# Altium schematic symbol library MCU_Microchip_AVR_Dx.SchLib: 50 symbols
Pins are listed as number, name and electrical type; pins without a type are passive.

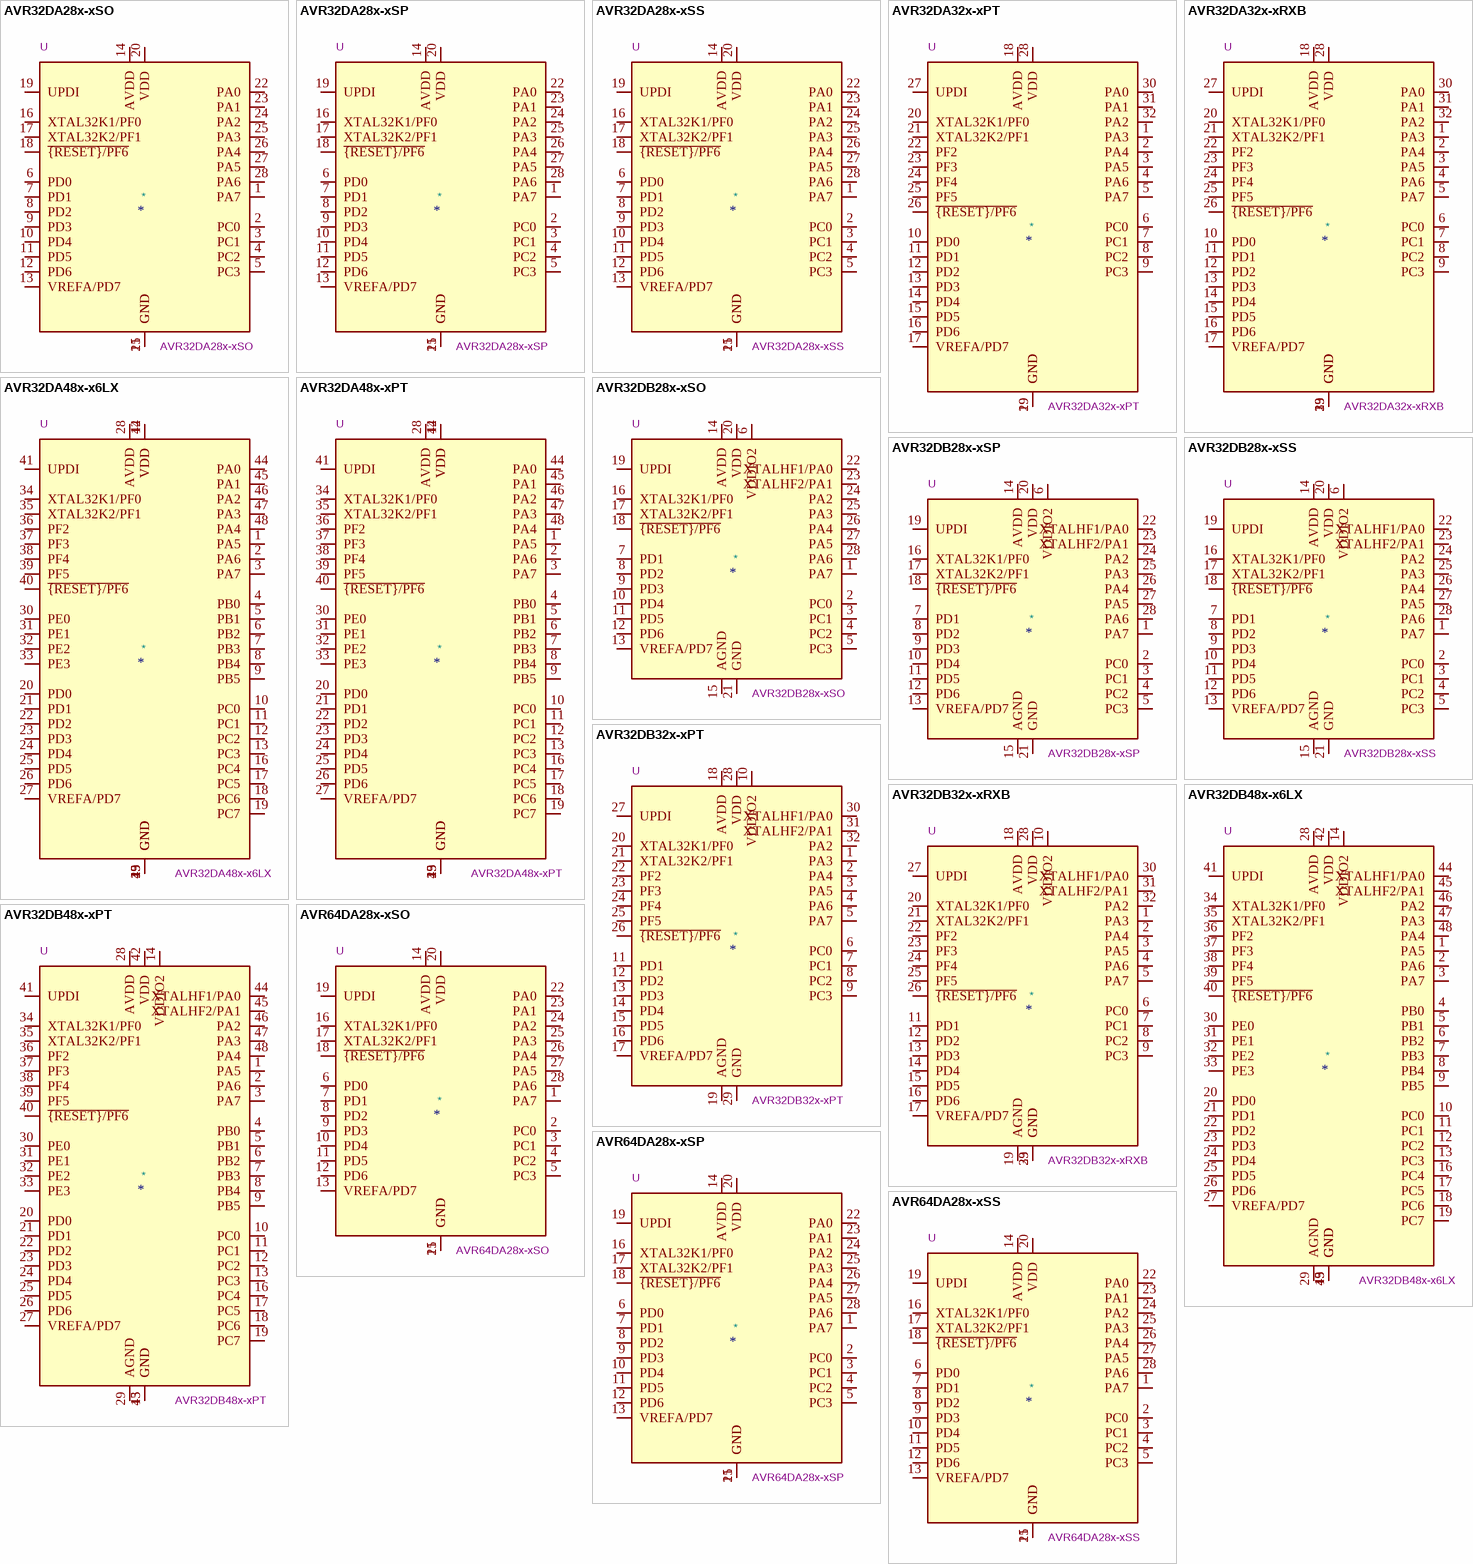
[diagram p0: symbols AVR32DA28x-xSO to AVR64DA28x-xSS]

## AVR32DA28x-xSO
designator *  value AVR32DA28x-xSO  Reference: U
24MHz, 32kB Flash, 4kB SRAM, EEPROM with Touch Sensing, SOIC-28; ki_keywords: AVR 8bit Microcontroller AVR-DA; ki_fp_filters: SOIC*7.5x17.9mm*P1.27mm*; Footprint: Package_SO:SOIC-28W_7.5x17.9mm_P1.27mm; Datasheet: https://ww1.microchip.com/downloads/en/DeviceDoc/AVR32DA28-32-48-Data-Sheet-40002228B.pdf; Description_: 24MHz, 32kB Flash, 4kB SRAM, EEPROM with Touch Sensing, SOIC-28
pins: 1 PA7, 2 PC0, 3 PC1, 4 PC2, 5 PC3, 6 PD0, 7 PD1, 8 PD2, 9 PD3, 10 PD4, 11 PD5, 12 PD6, 13 VREFA/PD7, 14 AVDD, 15 GND, 16 XTAL32K1/PF0, 17 XTAL32K2/PF1, 18 ~{{RESET}/PF6}, 19 UPDI, 20 VDD, 21 GND, 22 PA0, 23 PA1, 24 PA2, 25 PA3, 26 PA4, 27 PA5, 28 PA6

## AVR32DA28x-xSP
designator *  value AVR32DA28x-xSP  Reference: U
24MHz, 32kB Flash, 4kB SRAM, EEPROM with Touch Sensing, SPDIP-28; ki_keywords: AVR 8bit Microcontroller AVR-DA; ki_fp_filters: DIP*W7.62mm*; Footprint: Package_DIP:DIP-28_W7.62mm; Datasheet: https://ww1.microchip.com/downloads/en/DeviceDoc/AVR32DA28-32-48-Data-Sheet-40002228B.pdf; Description_: 24MHz, 32kB Flash, 4kB SRAM, EEPROM with Touch Sensing, SPDIP-28
pins: 1 PA7, 2 PC0, 3 PC1, 4 PC2, 5 PC3, 6 PD0, 7 PD1, 8 PD2, 9 PD3, 10 PD4, 11 PD5, 12 PD6, 13 VREFA/PD7, 14 AVDD, 15 GND, 16 XTAL32K1/PF0, 17 XTAL32K2/PF1, 18 ~{{RESET}/PF6}, 19 UPDI, 20 VDD, 21 GND, 22 PA0, 23 PA1, 24 PA2, 25 PA3, 26 PA4, 27 PA5, 28 PA6

## AVR32DA28x-xSS
designator *  value AVR32DA28x-xSS  Reference: U
24MHz, 32kB Flash, 4kB SRAM, EEPROM with Touch Sensing, SSOP-28; ki_keywords: AVR 8bit Microcontroller AVR-DA; ki_fp_filters: SSOP*5.3x10.2mm*P0.65mm*; Footprint: Package_SO:SSOP-28_5.3x10.2mm_P0.65mm; Datasheet: https://ww1.microchip.com/downloads/en/DeviceDoc/AVR32DA28-32-48-Data-Sheet-40002228B.pdf; Description_: 24MHz, 32kB Flash, 4kB SRAM, EEPROM with Touch Sensing, SSOP-28
pins: 1 PA7, 2 PC0, 3 PC1, 4 PC2, 5 PC3, 6 PD0, 7 PD1, 8 PD2, 9 PD3, 10 PD4, 11 PD5, 12 PD6, 13 VREFA/PD7, 14 AVDD, 15 GND, 16 XTAL32K1/PF0, 17 XTAL32K2/PF1, 18 ~{{RESET}/PF6}, 19 UPDI, 20 VDD, 21 GND, 22 PA0, 23 PA1, 24 PA2, 25 PA3, 26 PA4, 27 PA5, 28 PA6

## AVR32DA32x-xPT
designator *  value AVR32DA32x-xPT  Reference: U
24MHz, 32kB Flash, 4kB SRAM, EEPROM with Touch Sensing, TQFP-32; ki_keywords: AVR 8bit Microcontroller AVR-DA; ki_fp_filters: TQFP*7x7mm*P0.8mm*; Footprint: Package_QFP:TQFP-32_7x7mm_P0.8mm; Datasheet: https://ww1.microchip.com/downloads/en/DeviceDoc/AVR32DA28-32-48-Data-Sheet-40002228B.pdf; Description_: 24MHz, 32kB Flash, 4kB SRAM, EEPROM with Touch Sensing, TQFP-32
pins: 1 PA3, 2 PA4, 3 PA5, 4 PA6, 5 PA7, 6 PC0, 7 PC1, 8 PC2, 9 PC3, 10 PD0, 11 PD1, 12 PD2, 13 PD3, 14 PD4, 15 PD5, 16 PD6, 17 VREFA/PD7, 18 AVDD, 19 GND, 20 XTAL32K1/PF0, 21 XTAL32K2/PF1, 22 PF2, 23 PF3, 24 PF4, 25 PF5, 26 ~{{RESET}/PF6}, 27 UPDI, 28 VDD, 29 GND, 30 PA0, 31 PA1, 32 PA2

## AVR32DA32x-xRXB
designator *  value AVR32DA32x-xRXB  Reference: U
24MHz, 32kB Flash, 4kB SRAM, EEPROM with Touch Sensing, VQFN-32; ki_keywords: AVR 8bit Microcontroller AVR-DA; ki_fp_filters: QFN*1EP*5x5mm*P0.5mm*EP3.1x3.1mm*; Footprint: Package_DFN_QFN:QFN-32-1EP_5x5mm_P0.5mm_EP3.1x3.1mm; Datasheet: https://ww1.microchip.com/downloads/en/DeviceDoc/AVR32DA28-32-48-Data-Sheet-40002228B.pdf; Description_: 24MHz, 32kB Flash, 4kB SRAM, EEPROM with Touch Sensing, VQFN-32
pins: 1 PA3, 2 PA4, 3 PA5, 4 PA6, 5 PA7, 6 PC0, 7 PC1, 8 PC2, 9 PC3, 10 PD0, 11 PD1, 12 PD2, 13 PD3, 14 PD4, 15 PD5, 16 PD6, 17 VREFA/PD7, 18 AVDD, 19 GND, 20 XTAL32K1/PF0, 21 XTAL32K2/PF1, 22 PF2, 23 PF3, 24 PF4, 25 PF5, 26 ~{{RESET}/PF6}, 27 UPDI, 28 VDD, 29 GND, 30 PA0, 31 PA1, 32 PA2, 33 GND

## AVR32DA48x-x6LX
designator *  value AVR32DA48x-x6LX  Reference: U
24MHz, 32kB Flash, 4kB SRAM, EEPROM with Touch Sensing, VQFN-48; ki_keywords: AVR 8bit Microcontroller AVR-DA; ki_fp_filters: QFN*1EP*6x6mm*P0.4mm*EP4.2x4.2mm*; Footprint: Package_DFN_QFN:QFN-48-1EP_6x6mm_P0.4mm_EP4.2x4.2mm; Datasheet: https://ww1.microchip.com/downloads/en/DeviceDoc/AVR32DA28-32-48-Data-Sheet-40002228B.pdf; Description_: 24MHz, 32kB Flash, 4kB SRAM, EEPROM with Touch Sensing, VQFN-48
pins: 1 PA5, 2 PA6, 3 PA7, 4 PB0, 5 PB1, 6 PB2, 7 PB3, 8 PB4, 9 PB5, 10 PC0, 11 PC1, 12 PC2, 13 PC3, 14 VDD, 15 GND, 16 PC4, 17 PC5, 18 PC6, 19 PC7, 20 PD0, 21 PD1, 22 PD2, 23 PD3, 24 PD4, 25 PD5, 26 PD6, 27 VREFA/PD7, 28 AVDD, 29 GND, 30 PE0, 31 PE1, 32 PE2, 33 PE3, 34 XTAL32K1/PF0, 35 XTAL32K2/PF1, 36 PF2, 37 PF3, 38 PF4, 39 PF5, 40 ~{{RESET}/PF6}, 41 UPDI, 42 VDD, 43 GND, 44 PA0, 45 PA1, 46 PA2, 47 PA3, 48 PA4, 49 GND

## AVR32DA48x-xPT
designator *  value AVR32DA48x-xPT  Reference: U
24MHz, 32kB Flash, 4kB SRAM, EEPROM with Touch Sensing, TQFP-48; ki_keywords: AVR 8bit Microcontroller AVR-DA; ki_fp_filters: TQFP*7x7mm*P0.5mm*; Footprint: Package_QFP:TQFP-48_7x7mm_P0.5mm; Datasheet: https://ww1.microchip.com/downloads/en/DeviceDoc/AVR32DA28-32-48-Data-Sheet-40002228B.pdf; Description_: 24MHz, 32kB Flash, 4kB SRAM, EEPROM with Touch Sensing, TQFP-48
pins: 1 PA5, 2 PA6, 3 PA7, 4 PB0, 5 PB1, 6 PB2, 7 PB3, 8 PB4, 9 PB5, 10 PC0, 11 PC1, 12 PC2, 13 PC3, 14 VDD, 15 GND, 16 PC4, 17 PC5, 18 PC6, 19 PC7, 20 PD0, 21 PD1, 22 PD2, 23 PD3, 24 PD4, 25 PD5, 26 PD6, 27 VREFA/PD7, 28 AVDD, 29 GND, 30 PE0, 31 PE1, 32 PE2, 33 PE3, 34 XTAL32K1/PF0, 35 XTAL32K2/PF1, 36 PF2, 37 PF3, 38 PF4, 39 PF5, 40 ~{{RESET}/PF6}, 41 UPDI, 42 VDD, 43 GND, 44 PA0, 45 PA1, 46 PA2, 47 PA3, 48 PA4

## AVR32DB28x-xSO
designator *  value AVR32DB28x-xSO  Reference: U
24MHz, 32kB Flash, 4kB SRAM, EEPROM with Op Amps and Multi-Voltage I/O, SOIC-28; ki_keywords: AVR 8bit Microcontroller AVR-DB; ki_fp_filters: SOIC*7.5x17.9mm*P1.27mm*; Footprint: Package_SO:SOIC-28W_7.5x17.9mm_P1.27mm; Datasheet: https://ww1.microchip.com/downloads/en/DeviceDoc/AVR32DB28-32-48-DataSheet-DS40002301A.pdf; Description_: 24MHz, 32kB Flash, 4kB SRAM, EEPROM with Op Amps and Multi-Voltage I/O, SOIC-28
pins: 1 PA7, 2 PC0, 3 PC1, 4 PC2, 5 PC3, 6 VDDIO2, 7 PD1, 8 PD2, 9 PD3, 10 PD4, 11 PD5, 12 PD6, 13 VREFA/PD7, 14 AVDD, 15 AGND, 16 XTAL32K1/PF0, 17 XTAL32K2/PF1, 18 ~{{RESET}/PF6}, 19 UPDI, 20 VDD, 21 GND, 22 XTALHF1/PA0, 23 XTALHF2/PA1, 24 PA2, 25 PA3, 26 PA4, 27 PA5, 28 PA6

## AVR32DB28x-xSP
designator *  value AVR32DB28x-xSP  Reference: U
24MHz, 32kB Flash, 4kB SRAM, EEPROM with Op Amps and Multi-Voltage I/O, SPDIP-28; ki_keywords: AVR 8bit Microcontroller AVR-DB; ki_fp_filters: DIP*W7.62mm*; Footprint: Package_DIP:DIP-28_W7.62mm; Datasheet: https://ww1.microchip.com/downloads/en/DeviceDoc/AVR32DB28-32-48-DataSheet-DS40002301A.pdf; Description_: 24MHz, 32kB Flash, 4kB SRAM, EEPROM with Op Amps and Multi-Voltage I/O, SPDIP-28
pins: 1 PA7, 2 PC0, 3 PC1, 4 PC2, 5 PC3, 6 VDDIO2, 7 PD1, 8 PD2, 9 PD3, 10 PD4, 11 PD5, 12 PD6, 13 VREFA/PD7, 14 AVDD, 15 AGND, 16 XTAL32K1/PF0, 17 XTAL32K2/PF1, 18 ~{{RESET}/PF6}, 19 UPDI, 20 VDD, 21 GND, 22 XTALHF1/PA0, 23 XTALHF2/PA1, 24 PA2, 25 PA3, 26 PA4, 27 PA5, 28 PA6

## AVR32DB28x-xSS
designator *  value AVR32DB28x-xSS  Reference: U
24MHz, 32kB Flash, 4kB SRAM, EEPROM with Op Amps and Multi-Voltage I/O, SSOP-28; ki_keywords: AVR 8bit Microcontroller AVR-DB; ki_fp_filters: SSOP*5.3x10.2mm*P0.65mm*; Footprint: Package_SO:SSOP-28_5.3x10.2mm_P0.65mm; Datasheet: https://ww1.microchip.com/downloads/en/DeviceDoc/AVR32DB28-32-48-DataSheet-DS40002301A.pdf; Description_: 24MHz, 32kB Flash, 4kB SRAM, EEPROM with Op Amps and Multi-Voltage I/O, SSOP-28
pins: 1 PA7, 2 PC0, 3 PC1, 4 PC2, 5 PC3, 6 VDDIO2, 7 PD1, 8 PD2, 9 PD3, 10 PD4, 11 PD5, 12 PD6, 13 VREFA/PD7, 14 AVDD, 15 AGND, 16 XTAL32K1/PF0, 17 XTAL32K2/PF1, 18 ~{{RESET}/PF6}, 19 UPDI, 20 VDD, 21 GND, 22 XTALHF1/PA0, 23 XTALHF2/PA1, 24 PA2, 25 PA3, 26 PA4, 27 PA5, 28 PA6

## AVR32DB32x-xPT
designator *  value AVR32DB32x-xPT  Reference: U
24MHz, 32kB Flash, 4kB SRAM, EEPROM with Op Amps and Multi-Voltage I/O, TQFP-32; ki_keywords: AVR 8bit Microcontroller AVR-DB; ki_fp_filters: TQFP*7x7mm*P0.8mm*; Footprint: Package_QFP:TQFP-32_7x7mm_P0.8mm; Datasheet: https://ww1.microchip.com/downloads/en/DeviceDoc/AVR32DB28-32-48-DataSheet-DS40002301A.pdf; Description_: 24MHz, 32kB Flash, 4kB SRAM, EEPROM with Op Amps and Multi-Voltage I/O, TQFP-32
pins: 1 PA3, 2 PA4, 3 PA5, 4 PA6, 5 PA7, 6 PC0, 7 PC1, 8 PC2, 9 PC3, 10 VDDIO2, 11 PD1, 12 PD2, 13 PD3, 14 PD4, 15 PD5, 16 PD6, 17 VREFA/PD7, 18 AVDD, 19 AGND, 20 XTAL32K1/PF0, 21 XTAL32K2/PF1, 22 PF2, 23 PF3, 24 PF4, 25 PF5, 26 ~{{RESET}/PF6}, 27 UPDI, 28 VDD, 29 GND, 30 XTALHF1/PA0, 31 XTALHF2/PA1, 32 PA2

## AVR32DB32x-xRXB
designator *  value AVR32DB32x-xRXB  Reference: U
24MHz, 32kB Flash, 4kB SRAM, EEPROM with Op Amps and Multi-Voltage I/O, VQFN-32; ki_keywords: AVR 8bit Microcontroller AVR-DB; ki_fp_filters: QFN*1EP*5x5mm*P0.5mm*EP3.1x3.1mm*; Footprint: Package_DFN_QFN:QFN-32-1EP_5x5mm_P0.5mm_EP3.1x3.1mm; Datasheet: https://ww1.microchip.com/downloads/en/DeviceDoc/AVR32DB28-32-48-DataSheet-DS40002301A.pdf; Description_: 24MHz, 32kB Flash, 4kB SRAM, EEPROM with Op Amps and Multi-Voltage I/O, VQFN-32
pins: 1 PA3, 2 PA4, 3 PA5, 4 PA6, 5 PA7, 6 PC0, 7 PC1, 8 PC2, 9 PC3, 10 VDDIO2, 11 PD1, 12 PD2, 13 PD3, 14 PD4, 15 PD5, 16 PD6, 17 VREFA/PD7, 18 AVDD, 19 AGND, 20 XTAL32K1/PF0, 21 XTAL32K2/PF1, 22 PF2, 23 PF3, 24 PF4, 25 PF5, 26 ~{{RESET}/PF6}, 27 UPDI, 28 VDD, 29 GND, 30 XTALHF1/PA0, 31 XTALHF2/PA1, 32 PA2, 33 GND

## AVR32DB48x-x6LX
designator *  value AVR32DB48x-x6LX  Reference: U
24MHz, 32kB Flash, 4kB SRAM, EEPROM with Op Amps and Multi-Voltage I/O, VQFN-48; ki_keywords: AVR 8bit Microcontroller AVR-DB; ki_fp_filters: QFN*1EP*6x6mm*P0.4mm*EP4.2x4.2mm*; Footprint: Package_DFN_QFN:QFN-48-1EP_6x6mm_P0.4mm_EP4.2x4.2mm; Datasheet: https://ww1.microchip.com/downloads/en/DeviceDoc/AVR32DB28-32-48-DataSheet-DS40002301A.pdf; Description_: 24MHz, 32kB Flash, 4kB SRAM, EEPROM with Op Amps and Multi-Voltage I/O, VQFN-48
pins: 1 PA5, 2 PA6, 3 PA7, 4 PB0, 5 PB1, 6 PB2, 7 PB3, 8 PB4, 9 PB5, 10 PC0, 11 PC1, 12 PC2, 13 PC3, 14 VDDIO2, 15 GND, 16 PC4, 17 PC5, 18 PC6, 19 PC7, 20 PD0, 21 PD1, 22 PD2, 23 PD3, 24 PD4, 25 PD5, 26 PD6, 27 VREFA/PD7, 28 AVDD, 29 AGND, 30 PE0, 31 PE1, 32 PE2, 33 PE3, 34 XTAL32K1/PF0, 35 XTAL32K2/PF1, 36 PF2, 37 PF3, 38 PF4, 39 PF5, 40 ~{{RESET}/PF6}, 41 UPDI, 42 VDD, 43 GND, 44 XTALHF1/PA0, 45 XTALHF2/PA1, 46 PA2, 47 PA3, 48 PA4, 49 GND

## AVR32DB48x-xPT
designator *  value AVR32DB48x-xPT  Reference: U
24MHz, 32kB Flash, 4kB SRAM, EEPROM with Op Amps and Multi-Voltage I/O, TQFP-48; ki_keywords: AVR 8bit Microcontroller AVR-DB; ki_fp_filters: TQFP*7x7mm*P0.5mm*; Footprint: Package_QFP:TQFP-48_7x7mm_P0.5mm; Datasheet: https://ww1.microchip.com/downloads/en/DeviceDoc/AVR32DB28-32-48-DataSheet-DS40002301A.pdf; Description_: 24MHz, 32kB Flash, 4kB SRAM, EEPROM with Op Amps and Multi-Voltage I/O, TQFP-48
pins: 1 PA5, 2 PA6, 3 PA7, 4 PB0, 5 PB1, 6 PB2, 7 PB3, 8 PB4, 9 PB5, 10 PC0, 11 PC1, 12 PC2, 13 PC3, 14 VDDIO2, 15 GND, 16 PC4, 17 PC5, 18 PC6, 19 PC7, 20 PD0, 21 PD1, 22 PD2, 23 PD3, 24 PD4, 25 PD5, 26 PD6, 27 VREFA/PD7, 28 AVDD, 29 AGND, 30 PE0, 31 PE1, 32 PE2, 33 PE3, 34 XTAL32K1/PF0, 35 XTAL32K2/PF1, 36 PF2, 37 PF3, 38 PF4, 39 PF5, 40 ~{{RESET}/PF6}, 41 UPDI, 42 VDD, 43 GND, 44 XTALHF1/PA0, 45 XTALHF2/PA1, 46 PA2, 47 PA3, 48 PA4

## AVR64DA28x-xSO
designator *  value AVR64DA28x-xSO  Reference: U
24MHz, 64kB Flash, 8kB SRAM, EEPROM with Touch Sensing, SOIC-28; ki_keywords: AVR 8bit Microcontroller AVR-DA; ki_fp_filters: SOIC*7.5x17.9mm*P1.27mm*; Footprint: Package_SO:SOIC-28W_7.5x17.9mm_P1.27mm; Datasheet: https://ww1.microchip.com/downloads/en/DeviceDoc/AVR64DA28-32-48-64-Data-Sheet-40002233B.pdf; Description_: 24MHz, 64kB Flash, 8kB SRAM, EEPROM with Touch Sensing, SOIC-28
pins: 1 PA7, 2 PC0, 3 PC1, 4 PC2, 5 PC3, 6 PD0, 7 PD1, 8 PD2, 9 PD3, 10 PD4, 11 PD5, 12 PD6, 13 VREFA/PD7, 14 AVDD, 15 GND, 16 XTAL32K1/PF0, 17 XTAL32K2/PF1, 18 ~{{RESET}/PF6}, 19 UPDI, 20 VDD, 21 GND, 22 PA0, 23 PA1, 24 PA2, 25 PA3, 26 PA4, 27 PA5, 28 PA6

## AVR64DA28x-xSP
designator *  value AVR64DA28x-xSP  Reference: U
24MHz, 64kB Flash, 8kB SRAM, EEPROM with Touch Sensing, SPDIP-28; ki_keywords: AVR 8bit Microcontroller AVR-DA; ki_fp_filters: DIP*W7.62mm*; Footprint: Package_DIP:DIP-28_W7.62mm; Datasheet: https://ww1.microchip.com/downloads/en/DeviceDoc/AVR64DA28-32-48-64-Data-Sheet-40002233B.pdf; Description_: 24MHz, 64kB Flash, 8kB SRAM, EEPROM with Touch Sensing, SPDIP-28
pins: 1 PA7, 2 PC0, 3 PC1, 4 PC2, 5 PC3, 6 PD0, 7 PD1, 8 PD2, 9 PD3, 10 PD4, 11 PD5, 12 PD6, 13 VREFA/PD7, 14 AVDD, 15 GND, 16 XTAL32K1/PF0, 17 XTAL32K2/PF1, 18 ~{{RESET}/PF6}, 19 UPDI, 20 VDD, 21 GND, 22 PA0, 23 PA1, 24 PA2, 25 PA3, 26 PA4, 27 PA5, 28 PA6

## AVR64DA28x-xSS
designator *  value AVR64DA28x-xSS  Reference: U
24MHz, 64kB Flash, 8kB SRAM, EEPROM with Touch Sensing, SSOP-28; ki_keywords: AVR 8bit Microcontroller AVR-DA; ki_fp_filters: SSOP*5.3x10.2mm*P0.65mm*; Footprint: Package_SO:SSOP-28_5.3x10.2mm_P0.65mm; Datasheet: https://ww1.microchip.com/downloads/en/DeviceDoc/AVR64DA28-32-48-64-Data-Sheet-40002233B.pdf; Description_: 24MHz, 64kB Flash, 8kB SRAM, EEPROM with Touch Sensing, SSOP-28
pins: 1 PA7, 2 PC0, 3 PC1, 4 PC2, 5 PC3, 6 PD0, 7 PD1, 8 PD2, 9 PD3, 10 PD4, 11 PD5, 12 PD6, 13 VREFA/PD7, 14 AVDD, 15 GND, 16 XTAL32K1/PF0, 17 XTAL32K2/PF1, 18 ~{{RESET}/PF6}, 19 UPDI, 20 VDD, 21 GND, 22 PA0, 23 PA1, 24 PA2, 25 PA3, 26 PA4, 27 PA5, 28 PA6

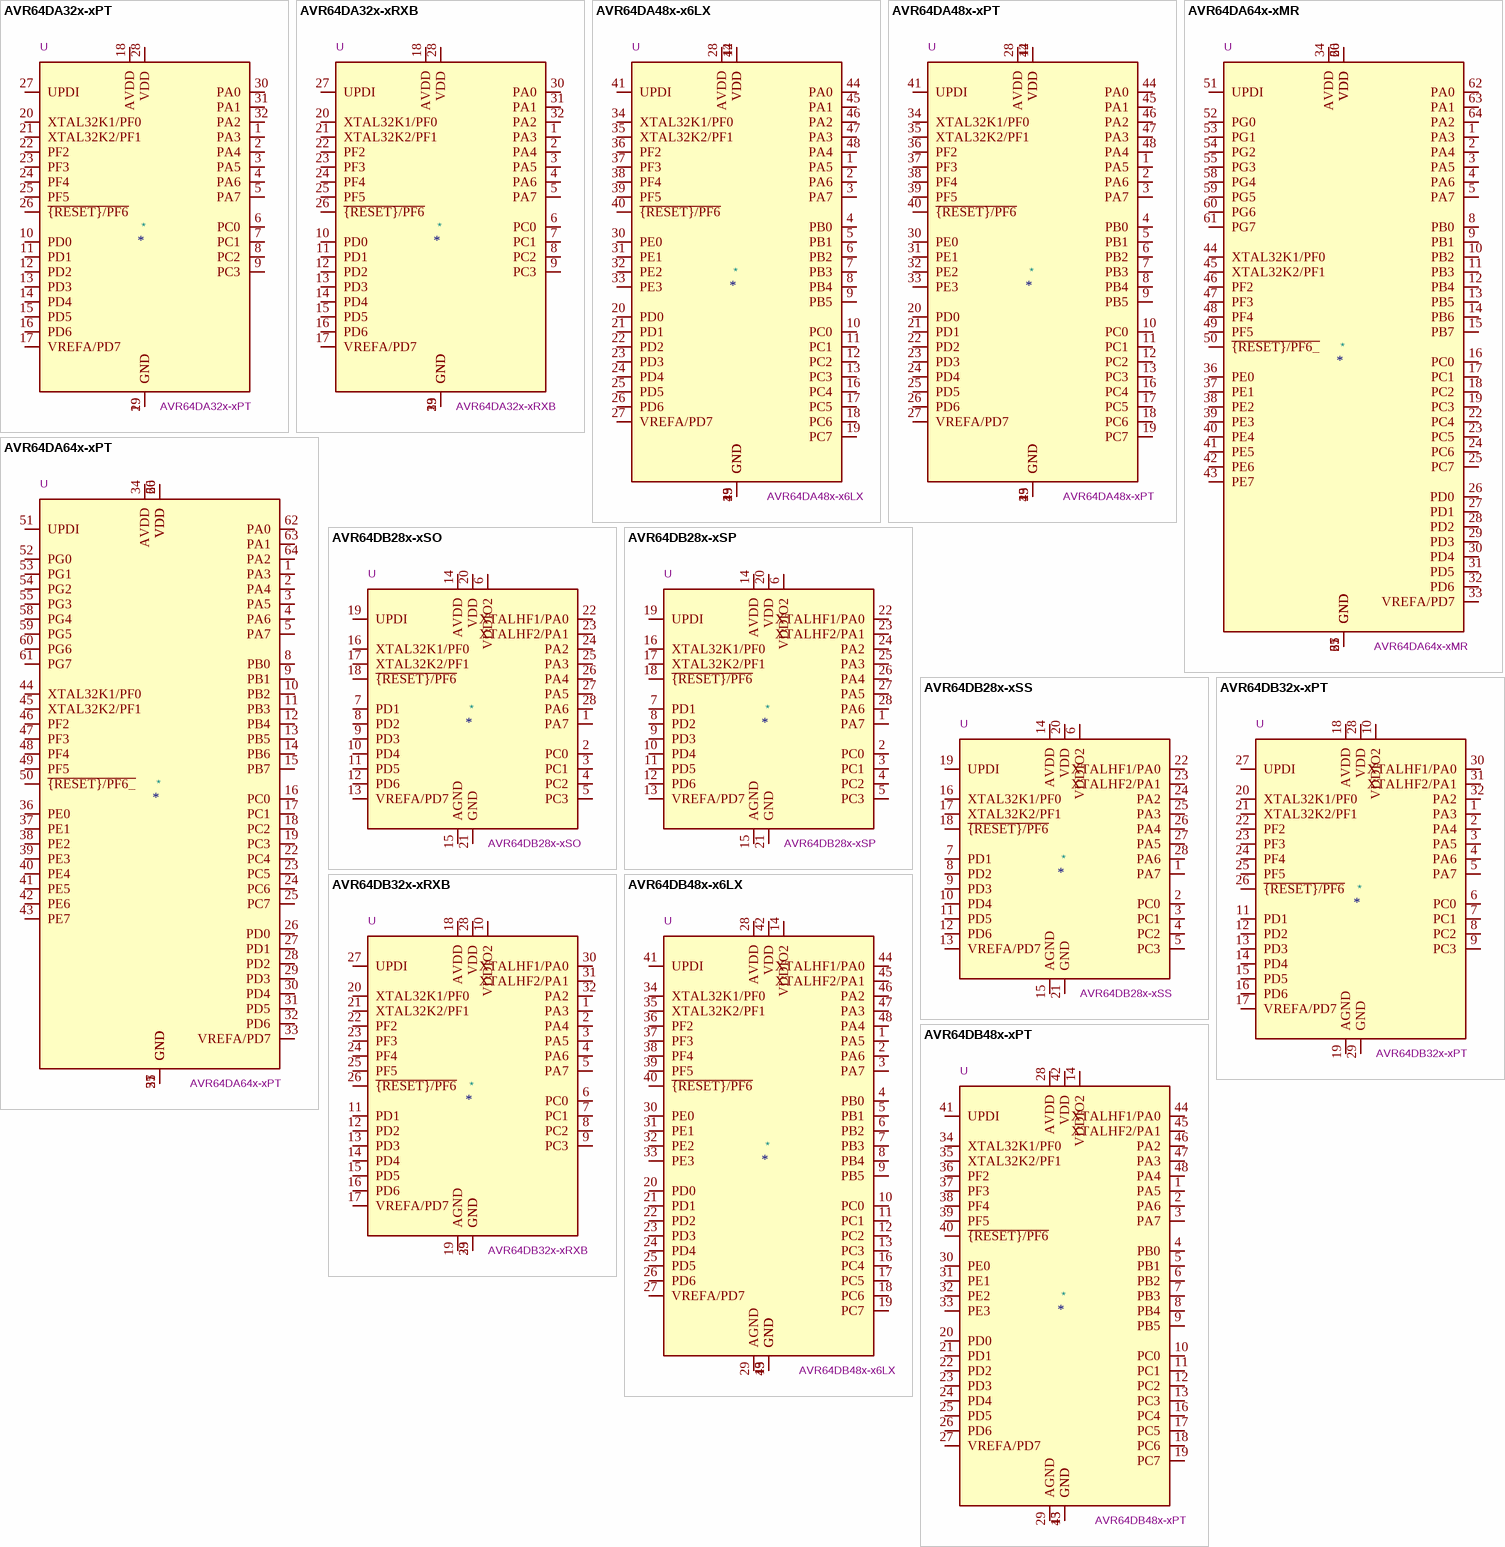
[diagram p1: symbols AVR64DA32x-xPT to AVR64DB48x-xPT]

## AVR64DA32x-xPT
designator *  value AVR64DA32x-xPT  Reference: U
24MHz, 64kB Flash, 8kB SRAM, EEPROM with Touch Sensing, TQFP-32; ki_keywords: AVR 8bit Microcontroller AVR-DA; ki_fp_filters: TQFP*7x7mm*P0.8mm*; Footprint: Package_QFP:TQFP-32_7x7mm_P0.8mm; Datasheet: https://ww1.microchip.com/downloads/en/DeviceDoc/AVR64DA28-32-48-64-Data-Sheet-40002233B.pdf; Description_: 24MHz, 64kB Flash, 8kB SRAM, EEPROM with Touch Sensing, TQFP-32
pins: 1 PA3, 2 PA4, 3 PA5, 4 PA6, 5 PA7, 6 PC0, 7 PC1, 8 PC2, 9 PC3, 10 PD0, 11 PD1, 12 PD2, 13 PD3, 14 PD4, 15 PD5, 16 PD6, 17 VREFA/PD7, 18 AVDD, 19 GND, 20 XTAL32K1/PF0, 21 XTAL32K2/PF1, 22 PF2, 23 PF3, 24 PF4, 25 PF5, 26 ~{{RESET}/PF6}, 27 UPDI, 28 VDD, 29 GND, 30 PA0, 31 PA1, 32 PA2

## AVR64DA32x-xRXB
designator *  value AVR64DA32x-xRXB  Reference: U
24MHz, 64kB Flash, 8kB SRAM, EEPROM with Touch Sensing, VQFN-32; ki_keywords: AVR 8bit Microcontroller AVR-DA; ki_fp_filters: QFN*1EP*5x5mm*P0.5mm*EP3.1x3.1mm*; Footprint: Package_DFN_QFN:QFN-32-1EP_5x5mm_P0.5mm_EP3.1x3.1mm; Datasheet: https://ww1.microchip.com/downloads/en/DeviceDoc/AVR64DA28-32-48-64-Data-Sheet-40002233B.pdf; Description_: 24MHz, 64kB Flash, 8kB SRAM, EEPROM with Touch Sensing, VQFN-32
pins: 1 PA3, 2 PA4, 3 PA5, 4 PA6, 5 PA7, 6 PC0, 7 PC1, 8 PC2, 9 PC3, 10 PD0, 11 PD1, 12 PD2, 13 PD3, 14 PD4, 15 PD5, 16 PD6, 17 VREFA/PD7, 18 AVDD, 19 GND, 20 XTAL32K1/PF0, 21 XTAL32K2/PF1, 22 PF2, 23 PF3, 24 PF4, 25 PF5, 26 ~{{RESET}/PF6}, 27 UPDI, 28 VDD, 29 GND, 30 PA0, 31 PA1, 32 PA2, 33 GND

## AVR64DA48x-x6LX
designator *  value AVR64DA48x-x6LX  Reference: U
24MHz, 64kB Flash, 8kB SRAM, EEPROM with Touch Sensing, VQFN-48; ki_keywords: AVR 8bit Microcontroller AVR-DA; ki_fp_filters: QFN*1EP*6x6mm*P0.4mm*EP4.2x4.2mm*; Footprint: Package_DFN_QFN:QFN-48-1EP_6x6mm_P0.4mm_EP4.2x4.2mm; Datasheet: https://ww1.microchip.com/downloads/en/DeviceDoc/AVR64DA28-32-48-64-Data-Sheet-40002233B.pdf; Description_: 24MHz, 64kB Flash, 8kB SRAM, EEPROM with Touch Sensing, VQFN-48
pins: 1 PA5, 2 PA6, 3 PA7, 4 PB0, 5 PB1, 6 PB2, 7 PB3, 8 PB4, 9 PB5, 10 PC0, 11 PC1, 12 PC2, 13 PC3, 14 VDD, 15 GND, 16 PC4, 17 PC5, 18 PC6, 19 PC7, 20 PD0, 21 PD1, 22 PD2, 23 PD3, 24 PD4, 25 PD5, 26 PD6, 27 VREFA/PD7, 28 AVDD, 29 GND, 30 PE0, 31 PE1, 32 PE2, 33 PE3, 34 XTAL32K1/PF0, 35 XTAL32K2/PF1, 36 PF2, 37 PF3, 38 PF4, 39 PF5, 40 ~{{RESET}/PF6}, 41 UPDI, 42 VDD, 43 GND, 44 PA0, 45 PA1, 46 PA2, 47 PA3, 48 PA4, 49 GND

## AVR64DA48x-xPT
designator *  value AVR64DA48x-xPT  Reference: U
24MHz, 64kB Flash, 8kB SRAM, EEPROM with Touch Sensing, TQFP-48; ki_keywords: AVR 8bit Microcontroller AVR-DA; ki_fp_filters: TQFP*7x7mm*P0.5mm*; Footprint: Package_QFP:TQFP-48_7x7mm_P0.5mm; Datasheet: https://ww1.microchip.com/downloads/en/DeviceDoc/AVR64DA28-32-48-64-Data-Sheet-40002233B.pdf; Description_: 24MHz, 64kB Flash, 8kB SRAM, EEPROM with Touch Sensing, TQFP-48
pins: 1 PA5, 2 PA6, 3 PA7, 4 PB0, 5 PB1, 6 PB2, 7 PB3, 8 PB4, 9 PB5, 10 PC0, 11 PC1, 12 PC2, 13 PC3, 14 VDD, 15 GND, 16 PC4, 17 PC5, 18 PC6, 19 PC7, 20 PD0, 21 PD1, 22 PD2, 23 PD3, 24 PD4, 25 PD5, 26 PD6, 27 VREFA/PD7, 28 AVDD, 29 GND, 30 PE0, 31 PE1, 32 PE2, 33 PE3, 34 XTAL32K1/PF0, 35 XTAL32K2/PF1, 36 PF2, 37 PF3, 38 PF4, 39 PF5, 40 ~{{RESET}/PF6}, 41 UPDI, 42 VDD, 43 GND, 44 PA0, 45 PA1, 46 PA2, 47 PA3, 48 PA4

## AVR64DA64x-xMR
designator *  value AVR64DA64x-xMR  Reference: U
24MHz, 64kB Flash, 8kB SRAM, EEPROM with Touch Sensing, VQFN-64; ki_keywords: AVR 8bit Microcontroller AVR-DA; ki_fp_filters: VQFN*1EP*9x9mm*P0.5mm*EP7.15x7.15mm*; Footprint: Package_DFN_QFN:VQFN-64-1EP_9x9mm_P0.5mm_EP7.15x7.15mm; Datasheet: https://ww1.microchip.com/downloads/en/DeviceDoc/AVR64DA28-32-48-64-Data-Sheet-40002233B.pdf; Description_: 24MHz, 64kB Flash, 8kB SRAM, EEPROM with Touch Sensing, VQFN-64
pins: 1 PA3, 2 PA4, 3 PA5, 4 PA6, 5 PA7, 6 VDD, 7 GND, 8 PB0, 9 PB1, 10 PB2, 11 PB3, 12 PB4, 13 PB5, 14 PB6, 15 PB7, 16 PC0, 17 PC1, 18 PC2, 19 PC3, 20 VDD, 21 GND, 22 PC4, 23 PC5, 24 PC6, 25 PC7, 26 PD0, 27 PD1, 28 PD2, 29 PD3, 30 PD4, 31 PD5, 32 PD6, 33 VREFA/PD7, 34 AVDD, 35 GND, 36 PE0, 37 PE1, 38 PE2, 39 PE3, 40 PE4, 41 PE5, 42 PE6, 43 PE7, 44 XTAL32K1/PF0, 45 XTAL32K2/PF1, 46 PF2, 47 PF3, 48 PF4, 49 PF5, 50 ~{{RESET}/PF6_}, 51 UPDI, 52 PG0, 53 PG1, 54 PG2, 55 PG3, 56 VDD, 57 GND, 58 PG4, 59 PG5, 60 PG6, 61 PG7, 62 PA0, 63 PA1, 64 PA2, 65 GND

## AVR64DA64x-xPT
designator *  value AVR64DA64x-xPT  Reference: U
24MHz, 64kB Flash, 8kB SRAM, EEPROM with Touch Sensing, TQFP-64; ki_keywords: AVR 8bit Microcontroller AVR-DA; ki_fp_filters: TQFP*10x10mm*P0.5mm*; Footprint: Package_QFP:TQFP-64_10x10mm_P0.5mm; Datasheet: https://ww1.microchip.com/downloads/en/DeviceDoc/AVR64DA28-32-48-64-Data-Sheet-40002233B.pdf; Description_: 24MHz, 64kB Flash, 8kB SRAM, EEPROM with Touch Sensing, TQFP-64
pins: 1 PA3, 2 PA4, 3 PA5, 4 PA6, 5 PA7, 6 VDD, 7 GND, 8 PB0, 9 PB1, 10 PB2, 11 PB3, 12 PB4, 13 PB5, 14 PB6, 15 PB7, 16 PC0, 17 PC1, 18 PC2, 19 PC3, 20 VDD, 21 GND, 22 PC4, 23 PC5, 24 PC6, 25 PC7, 26 PD0, 27 PD1, 28 PD2, 29 PD3, 30 PD4, 31 PD5, 32 PD6, 33 VREFA/PD7, 34 AVDD, 35 GND, 36 PE0, 37 PE1, 38 PE2, 39 PE3, 40 PE4, 41 PE5, 42 PE6, 43 PE7, 44 XTAL32K1/PF0, 45 XTAL32K2/PF1, 46 PF2, 47 PF3, 48 PF4, 49 PF5, 50 ~{{RESET}/PF6_}, 51 UPDI, 52 PG0, 53 PG1, 54 PG2, 55 PG3, 56 VDD, 57 GND, 58 PG4, 59 PG5, 60 PG6, 61 PG7, 62 PA0, 63 PA1, 64 PA2

## AVR64DB28x-xSO
designator *  value AVR64DB28x-xSO  Reference: U
24MHz, 64kB Flash, 8kB SRAM, EEPROM with Op Amps and Multi-Voltage I/O, SOIC-28; ki_keywords: AVR 8bit Microcontroller AVR-DB; ki_fp_filters: SOIC*7.5x17.9mm*P1.27mm*; Footprint: Package_SO:SOIC-28W_7.5x17.9mm_P1.27mm; Datasheet: https://ww1.microchip.com/downloads/en/DeviceDoc/AVR64DB28-32-48-64-DataSheet-DS40002300A.pdf; Description_: 24MHz, 64kB Flash, 8kB SRAM, EEPROM with Op Amps and Multi-Voltage I/O, SOIC-28
pins: 1 PA7, 2 PC0, 3 PC1, 4 PC2, 5 PC3, 6 VDDIO2, 7 PD1, 8 PD2, 9 PD3, 10 PD4, 11 PD5, 12 PD6, 13 VREFA/PD7, 14 AVDD, 15 AGND, 16 XTAL32K1/PF0, 17 XTAL32K2/PF1, 18 ~{{RESET}/PF6}, 19 UPDI, 20 VDD, 21 GND, 22 XTALHF1/PA0, 23 XTALHF2/PA1, 24 PA2, 25 PA3, 26 PA4, 27 PA5, 28 PA6

## AVR64DB28x-xSP
designator *  value AVR64DB28x-xSP  Reference: U
24MHz, 64kB Flash, 8kB SRAM, EEPROM with Op Amps and Multi-Voltage I/O, SPDIP-28; ki_keywords: AVR 8bit Microcontroller AVR-DB; ki_fp_filters: DIP*W7.62mm*; Footprint: Package_DIP:DIP-28_W7.62mm; Datasheet: https://ww1.microchip.com/downloads/en/DeviceDoc/AVR64DB28-32-48-64-DataSheet-DS40002300A.pdf; Description_: 24MHz, 64kB Flash, 8kB SRAM, EEPROM with Op Amps and Multi-Voltage I/O, SPDIP-28
pins: 1 PA7, 2 PC0, 3 PC1, 4 PC2, 5 PC3, 6 VDDIO2, 7 PD1, 8 PD2, 9 PD3, 10 PD4, 11 PD5, 12 PD6, 13 VREFA/PD7, 14 AVDD, 15 AGND, 16 XTAL32K1/PF0, 17 XTAL32K2/PF1, 18 ~{{RESET}/PF6}, 19 UPDI, 20 VDD, 21 GND, 22 XTALHF1/PA0, 23 XTALHF2/PA1, 24 PA2, 25 PA3, 26 PA4, 27 PA5, 28 PA6

## AVR64DB28x-xSS
designator *  value AVR64DB28x-xSS  Reference: U
24MHz, 64kB Flash, 8kB SRAM, EEPROM with Op Amps and Multi-Voltage I/O, SSOP-28; ki_keywords: AVR 8bit Microcontroller AVR-DB; ki_fp_filters: SSOP*5.3x10.2mm*P0.65mm*; Footprint: Package_SO:SSOP-28_5.3x10.2mm_P0.65mm; Datasheet: https://ww1.microchip.com/downloads/en/DeviceDoc/AVR64DB28-32-48-64-DataSheet-DS40002300A.pdf; Description_: 24MHz, 64kB Flash, 8kB SRAM, EEPROM with Op Amps and Multi-Voltage I/O, SSOP-28
pins: 1 PA7, 2 PC0, 3 PC1, 4 PC2, 5 PC3, 6 VDDIO2, 7 PD1, 8 PD2, 9 PD3, 10 PD4, 11 PD5, 12 PD6, 13 VREFA/PD7, 14 AVDD, 15 AGND, 16 XTAL32K1/PF0, 17 XTAL32K2/PF1, 18 ~{{RESET}/PF6}, 19 UPDI, 20 VDD, 21 GND, 22 XTALHF1/PA0, 23 XTALHF2/PA1, 24 PA2, 25 PA3, 26 PA4, 27 PA5, 28 PA6

## AVR64DB32x-xPT
designator *  value AVR64DB32x-xPT  Reference: U
24MHz, 64kB Flash, 8kB SRAM, EEPROM with Op Amps and Multi-Voltage I/O, TQFP-32; ki_keywords: AVR 8bit Microcontroller AVR-DB; ki_fp_filters: TQFP*7x7mm*P0.8mm*; Footprint: Package_QFP:TQFP-32_7x7mm_P0.8mm; Datasheet: https://ww1.microchip.com/downloads/en/DeviceDoc/AVR64DB28-32-48-64-DataSheet-DS40002300A.pdf; Description_: 24MHz, 64kB Flash, 8kB SRAM, EEPROM with Op Amps and Multi-Voltage I/O, TQFP-32
pins: 1 PA3, 2 PA4, 3 PA5, 4 PA6, 5 PA7, 6 PC0, 7 PC1, 8 PC2, 9 PC3, 10 VDDIO2, 11 PD1, 12 PD2, 13 PD3, 14 PD4, 15 PD5, 16 PD6, 17 VREFA/PD7, 18 AVDD, 19 AGND, 20 XTAL32K1/PF0, 21 XTAL32K2/PF1, 22 PF2, 23 PF3, 24 PF4, 25 PF5, 26 ~{{RESET}/PF6}, 27 UPDI, 28 VDD, 29 GND, 30 XTALHF1/PA0, 31 XTALHF2/PA1, 32 PA2

## AVR64DB32x-xRXB
designator *  value AVR64DB32x-xRXB  Reference: U
24MHz, 64kB Flash, 8kB SRAM, EEPROM with Op Amps and Multi-Voltage I/O, VQFN-32; ki_keywords: AVR 8bit Microcontroller AVR-DB; ki_fp_filters: QFN*1EP*5x5mm*P0.5mm*EP3.1x3.1mm*; Footprint: Package_DFN_QFN:QFN-32-1EP_5x5mm_P0.5mm_EP3.1x3.1mm; Datasheet: https://ww1.microchip.com/downloads/en/DeviceDoc/AVR64DB28-32-48-64-DataSheet-DS40002300A.pdf; Description_: 24MHz, 64kB Flash, 8kB SRAM, EEPROM with Op Amps and Multi-Voltage I/O, VQFN-32
pins: 1 PA3, 2 PA4, 3 PA5, 4 PA6, 5 PA7, 6 PC0, 7 PC1, 8 PC2, 9 PC3, 10 VDDIO2, 11 PD1, 12 PD2, 13 PD3, 14 PD4, 15 PD5, 16 PD6, 17 VREFA/PD7, 18 AVDD, 19 AGND, 20 XTAL32K1/PF0, 21 XTAL32K2/PF1, 22 PF2, 23 PF3, 24 PF4, 25 PF5, 26 ~{{RESET}/PF6}, 27 UPDI, 28 VDD, 29 GND, 30 XTALHF1/PA0, 31 XTALHF2/PA1, 32 PA2, 33 GND

## AVR64DB48x-x6LX
designator *  value AVR64DB48x-x6LX  Reference: U
24MHz, 64kB Flash, 8kB SRAM, EEPROM with Op Amps and Multi-Voltage I/O, VQFN-48; ki_keywords: AVR 8bit Microcontroller AVR-DB; ki_fp_filters: QFN*1EP*6x6mm*P0.4mm*EP4.2x4.2mm*; Footprint: Package_DFN_QFN:QFN-48-1EP_6x6mm_P0.4mm_EP4.2x4.2mm; Datasheet: https://ww1.microchip.com/downloads/en/DeviceDoc/AVR64DB28-32-48-64-DataSheet-DS40002300A.pdf; Description_: 24MHz, 64kB Flash, 8kB SRAM, EEPROM with Op Amps and Multi-Voltage I/O, VQFN-48
pins: 1 PA5, 2 PA6, 3 PA7, 4 PB0, 5 PB1, 6 PB2, 7 PB3, 8 PB4, 9 PB5, 10 PC0, 11 PC1, 12 PC2, 13 PC3, 14 VDDIO2, 15 GND, 16 PC4, 17 PC5, 18 PC6, 19 PC7, 20 PD0, 21 PD1, 22 PD2, 23 PD3, 24 PD4, 25 PD5, 26 PD6, 27 VREFA/PD7, 28 AVDD, 29 AGND, 30 PE0, 31 PE1, 32 PE2, 33 PE3, 34 XTAL32K1/PF0, 35 XTAL32K2/PF1, 36 PF2, 37 PF3, 38 PF4, 39 PF5, 40 ~{{RESET}/PF6}, 41 UPDI, 42 VDD, 43 GND, 44 XTALHF1/PA0, 45 XTALHF2/PA1, 46 PA2, 47 PA3, 48 PA4, 49 GND

## AVR64DB48x-xPT
designator *  value AVR64DB48x-xPT  Reference: U
24MHz, 64kB Flash, 8kB SRAM, EEPROM with Op Amps and Multi-Voltage I/O, TQFP-48; ki_keywords: AVR 8bit Microcontroller AVR-DB; ki_fp_filters: TQFP*7x7mm*P0.5mm*; Footprint: Package_QFP:TQFP-48_7x7mm_P0.5mm; Datasheet: https://ww1.microchip.com/downloads/en/DeviceDoc/AVR64DB28-32-48-64-DataSheet-DS40002300A.pdf; Description_: 24MHz, 64kB Flash, 8kB SRAM, EEPROM with Op Amps and Multi-Voltage I/O, TQFP-48
pins: 1 PA5, 2 PA6, 3 PA7, 4 PB0, 5 PB1, 6 PB2, 7 PB3, 8 PB4, 9 PB5, 10 PC0, 11 PC1, 12 PC2, 13 PC3, 14 VDDIO2, 15 GND, 16 PC4, 17 PC5, 18 PC6, 19 PC7, 20 PD0, 21 PD1, 22 PD2, 23 PD3, 24 PD4, 25 PD5, 26 PD6, 27 VREFA/PD7, 28 AVDD, 29 AGND, 30 PE0, 31 PE1, 32 PE2, 33 PE3, 34 XTAL32K1/PF0, 35 XTAL32K2/PF1, 36 PF2, 37 PF3, 38 PF4, 39 PF5, 40 ~{{RESET}/PF6}, 41 UPDI, 42 VDD, 43 GND, 44 XTALHF1/PA0, 45 XTALHF2/PA1, 46 PA2, 47 PA3, 48 PA4

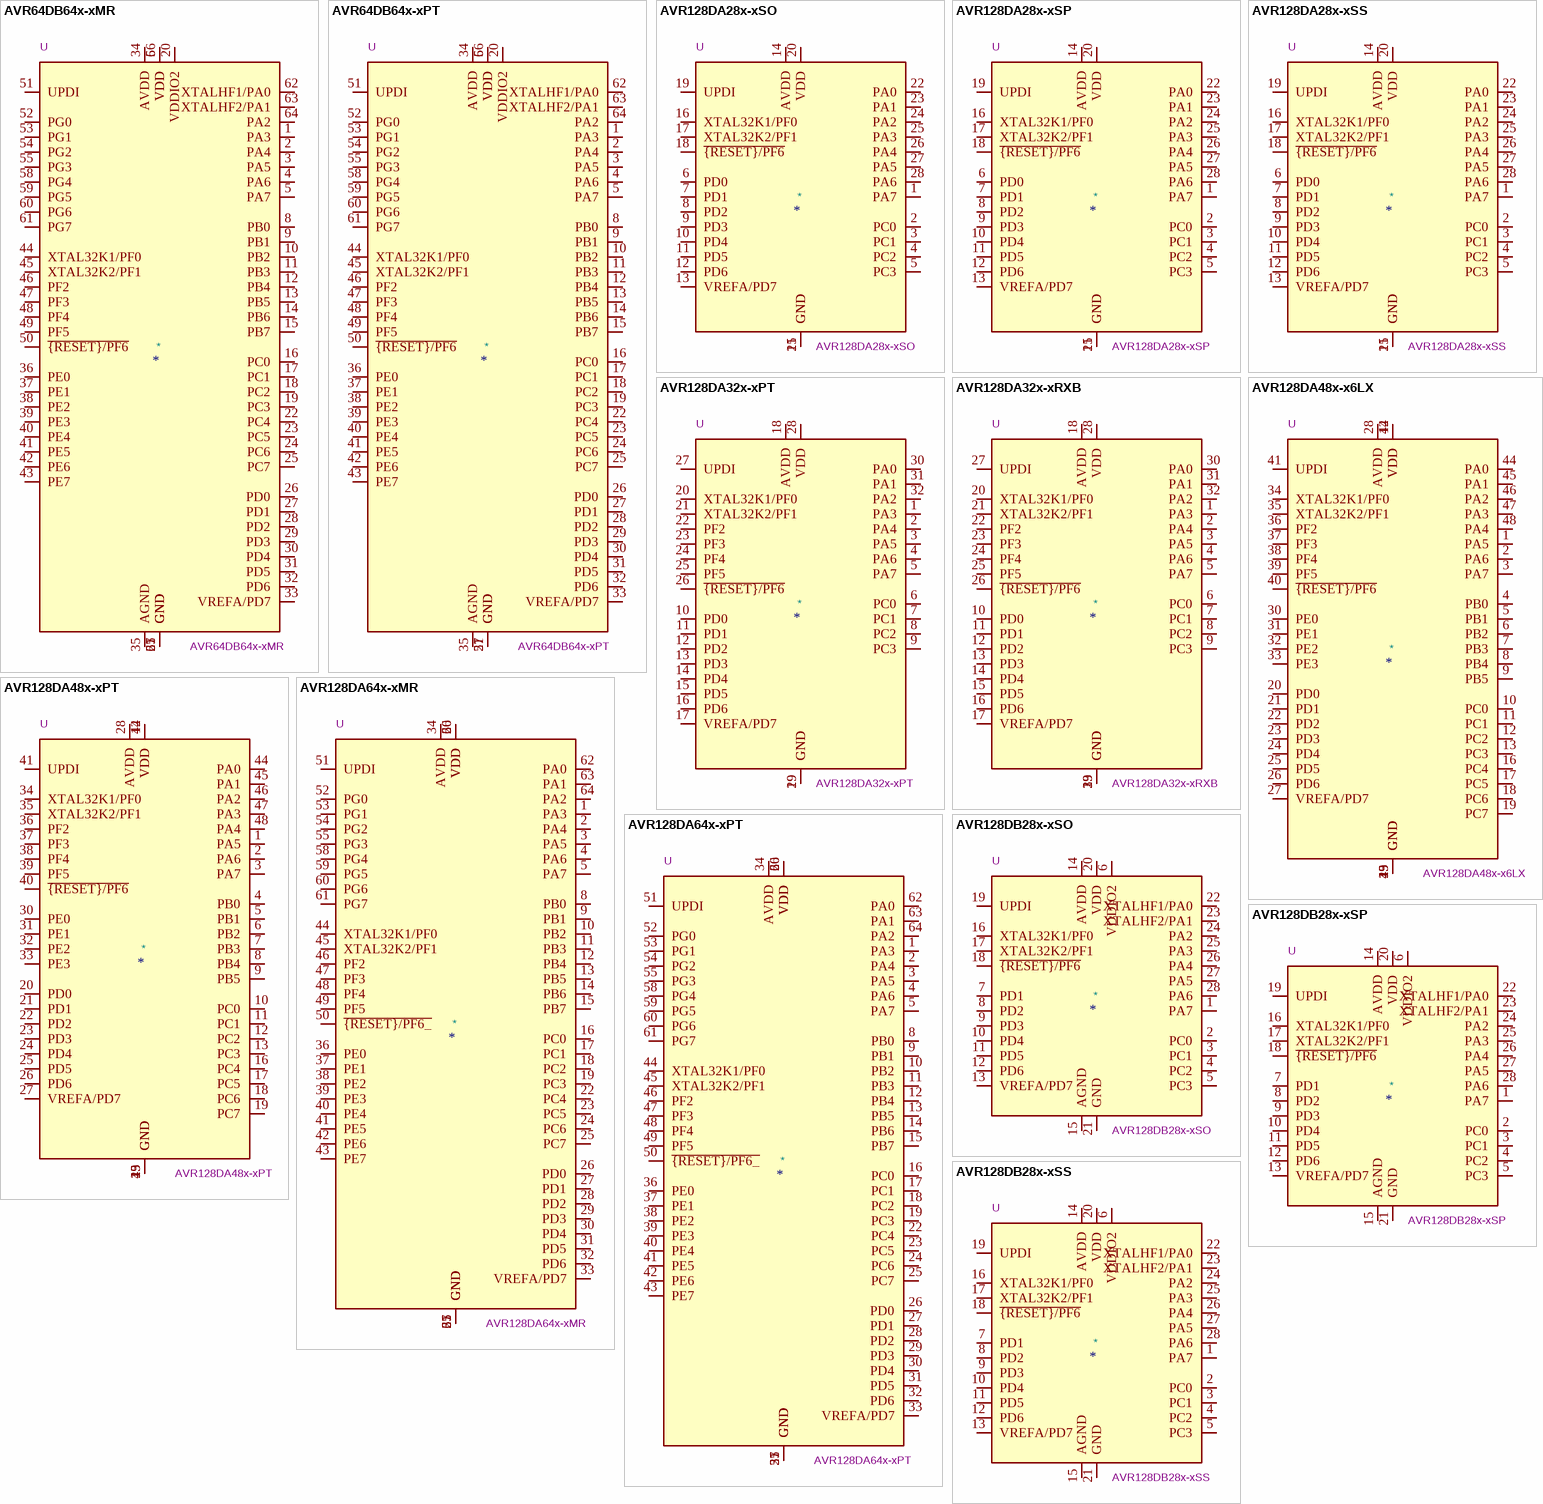
[diagram p2: symbols AVR64DB64x-xMR to AVR128DB28x-xSS]

## AVR64DB64x-xMR
designator *  value AVR64DB64x-xMR  Reference: U
24MHz, 64kB Flash, 8kB SRAM, EEPROM with Op Amps and Multi-Voltage I/O, VQFN-64; ki_keywords: AVR 8bit Microcontroller AVR-DB; ki_fp_filters: VQFN*1EP*9x9mm*P0.5mm*EP7.15x7.15mm*; Footprint: Package_DFN_QFN:VQFN-64-1EP_9x9mm_P0.5mm_EP7.15x7.15mm; Datasheet: https://ww1.microchip.com/downloads/en/DeviceDoc/AVR64DB28-32-48-64-DataSheet-DS40002300A.pdf; Description_: 24MHz, 64kB Flash, 8kB SRAM, EEPROM with Op Amps and Multi-Voltage I/O, VQFN-64
pins: 1 PA3, 2 PA4, 3 PA5, 4 PA6, 5 PA7, 6 VDD, 7 GND, 8 PB0, 9 PB1, 10 PB2, 11 PB3, 12 PB4, 13 PB5, 14 PB6, 15 PB7, 16 PC0, 17 PC1, 18 PC2, 19 PC3, 20 VDDIO2, 21 GND, 22 PC4, 23 PC5, 24 PC6, 25 PC7, 26 PD0, 27 PD1, 28 PD2, 29 PD3, 30 PD4, 31 PD5, 32 PD6, 33 VREFA/PD7, 34 AVDD, 35 AGND, 36 PE0, 37 PE1, 38 PE2, 39 PE3, 40 PE4, 41 PE5, 42 PE6, 43 PE7, 44 XTAL32K1/PF0, 45 XTAL32K2/PF1, 46 PF2, 47 PF3, 48 PF4, 49 PF5, 50 ~{{RESET}/PF6}, 51 UPDI, 52 PG0, 53 PG1, 54 PG2, 55 PG3, 56 VDD, 57 GND, 58 PG4, 59 PG5, 60 PG6, 61 PG7, 62 XTALHF1/PA0, 63 XTALHF2/PA1, 64 PA2, 65 GND

## AVR64DB64x-xPT
designator *  value AVR64DB64x-xPT  Reference: U
24MHz, 64kB Flash, 8kB SRAM, EEPROM with Op Amps and Multi-Voltage I/O, TQFP-64; ki_keywords: AVR 8bit Microcontroller AVR-DB; ki_fp_filters: TQFP*10x10mm*P0.5mm*; Footprint: Package_QFP:TQFP-64_10x10mm_P0.5mm; Datasheet: https://ww1.microchip.com/downloads/en/DeviceDoc/AVR64DB28-32-48-64-DataSheet-DS40002300A.pdf; Description_: 24MHz, 64kB Flash, 8kB SRAM, EEPROM with Op Amps and Multi-Voltage I/O, TQFP-64
pins: 1 PA3, 2 PA4, 3 PA5, 4 PA6, 5 PA7, 6 VDD, 7 GND, 8 PB0, 9 PB1, 10 PB2, 11 PB3, 12 PB4, 13 PB5, 14 PB6, 15 PB7, 16 PC0, 17 PC1, 18 PC2, 19 PC3, 20 VDDIO2, 21 GND, 22 PC4, 23 PC5, 24 PC6, 25 PC7, 26 PD0, 27 PD1, 28 PD2, 29 PD3, 30 PD4, 31 PD5, 32 PD6, 33 VREFA/PD7, 34 AVDD, 35 AGND, 36 PE0, 37 PE1, 38 PE2, 39 PE3, 40 PE4, 41 PE5, 42 PE6, 43 PE7, 44 XTAL32K1/PF0, 45 XTAL32K2/PF1, 46 PF2, 47 PF3, 48 PF4, 49 PF5, 50 ~{{RESET}/PF6}, 51 UPDI, 52 PG0, 53 PG1, 54 PG2, 55 PG3, 56 VDD, 57 GND, 58 PG4, 59 PG5, 60 PG6, 61 PG7, 62 XTALHF1/PA0, 63 XTALHF2/PA1, 64 PA2

## AVR128DA28x-xSO
designator *  value AVR128DA28x-xSO  Reference: U
24MHz, 128kB Flash, 16kB SRAM, EEPROM with Touch Sensing, SOIC-28; ki_keywords: AVR 8bit Microcontroller AVR-DA; ki_fp_filters: SOIC*7.5x17.9mm*P1.27mm*; Footprint: Package_SO:SOIC-28W_7.5x17.9mm_P1.27mm; Datasheet: https://ww1.microchip.com/downloads/en/DeviceDoc/AVR128DA28-32-48-64-DataSheet-DS40002183B.pdf; Description_: 24MHz, 128kB Flash, 16kB SRAM, EEPROM with Touch Sensing, SOIC-28
pins: 1 PA7, 2 PC0, 3 PC1, 4 PC2, 5 PC3, 6 PD0, 7 PD1, 8 PD2, 9 PD3, 10 PD4, 11 PD5, 12 PD6, 13 VREFA/PD7, 14 AVDD, 15 GND, 16 XTAL32K1/PF0, 17 XTAL32K2/PF1, 18 ~{{RESET}/PF6}, 19 UPDI, 20 VDD, 21 GND, 22 PA0, 23 PA1, 24 PA2, 25 PA3, 26 PA4, 27 PA5, 28 PA6

## AVR128DA28x-xSP
designator *  value AVR128DA28x-xSP  Reference: U
24MHz, 128kB Flash, 16kB SRAM, EEPROM with Touch Sensing, SPDIP-28; ki_keywords: AVR 8bit Microcontroller AVR-DA; ki_fp_filters: DIP*W7.62mm*; Footprint: Package_DIP:DIP-28_W7.62mm; Datasheet: https://ww1.microchip.com/downloads/en/DeviceDoc/AVR128DA28-32-48-64-DataSheet-DS40002183B.pdf; Description_: 24MHz, 128kB Flash, 16kB SRAM, EEPROM with Touch Sensing, SPDIP-28
pins: 1 PA7, 2 PC0, 3 PC1, 4 PC2, 5 PC3, 6 PD0, 7 PD1, 8 PD2, 9 PD3, 10 PD4, 11 PD5, 12 PD6, 13 VREFA/PD7, 14 AVDD, 15 GND, 16 XTAL32K1/PF0, 17 XTAL32K2/PF1, 18 ~{{RESET}/PF6}, 19 UPDI, 20 VDD, 21 GND, 22 PA0, 23 PA1, 24 PA2, 25 PA3, 26 PA4, 27 PA5, 28 PA6

## AVR128DA28x-xSS
designator *  value AVR128DA28x-xSS  Reference: U
24MHz, 128kB Flash, 16kB SRAM, EEPROM with Touch Sensing, SSOP-28; ki_keywords: AVR 8bit Microcontroller AVR-DA; ki_fp_filters: SSOP*5.3x10.2mm*P0.65mm*; Footprint: Package_SO:SSOP-28_5.3x10.2mm_P0.65mm; Datasheet: https://ww1.microchip.com/downloads/en/DeviceDoc/AVR128DA28-32-48-64-DataSheet-DS40002183B.pdf; Description_: 24MHz, 128kB Flash, 16kB SRAM, EEPROM with Touch Sensing, SSOP-28
pins: 1 PA7, 2 PC0, 3 PC1, 4 PC2, 5 PC3, 6 PD0, 7 PD1, 8 PD2, 9 PD3, 10 PD4, 11 PD5, 12 PD6, 13 VREFA/PD7, 14 AVDD, 15 GND, 16 XTAL32K1/PF0, 17 XTAL32K2/PF1, 18 ~{{RESET}/PF6}, 19 UPDI, 20 VDD, 21 GND, 22 PA0, 23 PA1, 24 PA2, 25 PA3, 26 PA4, 27 PA5, 28 PA6

## AVR128DA32x-xPT
designator *  value AVR128DA32x-xPT  Reference: U
24MHz, 128kB Flash, 16kB SRAM, EEPROM with Touch Sensing, TQFP-32; ki_keywords: AVR 8bit Microcontroller AVR-DA; ki_fp_filters: TQFP*7x7mm*P0.8mm*; Footprint: Package_QFP:TQFP-32_7x7mm_P0.8mm; Datasheet: https://ww1.microchip.com/downloads/en/DeviceDoc/AVR128DA28-32-48-64-DataSheet-DS40002183B.pdf; Description_: 24MHz, 128kB Flash, 16kB SRAM, EEPROM with Touch Sensing, TQFP-32
pins: 1 PA3, 2 PA4, 3 PA5, 4 PA6, 5 PA7, 6 PC0, 7 PC1, 8 PC2, 9 PC3, 10 PD0, 11 PD1, 12 PD2, 13 PD3, 14 PD4, 15 PD5, 16 PD6, 17 VREFA/PD7, 18 AVDD, 19 GND, 20 XTAL32K1/PF0, 21 XTAL32K2/PF1, 22 PF2, 23 PF3, 24 PF4, 25 PF5, 26 ~{{RESET}/PF6}, 27 UPDI, 28 VDD, 29 GND, 30 PA0, 31 PA1, 32 PA2

## AVR128DA32x-xRXB
designator *  value AVR128DA32x-xRXB  Reference: U
24MHz, 128kB Flash, 16kB SRAM, EEPROM with Touch Sensing, VQFN-32; ki_keywords: AVR 8bit Microcontroller AVR-DA; ki_fp_filters: QFN*1EP*5x5mm*P0.5mm*EP3.1x3.1mm*; Footprint: Package_DFN_QFN:QFN-32-1EP_5x5mm_P0.5mm_EP3.1x3.1mm; Datasheet: https://ww1.microchip.com/downloads/en/DeviceDoc/AVR128DA28-32-48-64-DataSheet-DS40002183B.pdf; Description_: 24MHz, 128kB Flash, 16kB SRAM, EEPROM with Touch Sensing, VQFN-32
pins: 1 PA3, 2 PA4, 3 PA5, 4 PA6, 5 PA7, 6 PC0, 7 PC1, 8 PC2, 9 PC3, 10 PD0, 11 PD1, 12 PD2, 13 PD3, 14 PD4, 15 PD5, 16 PD6, 17 VREFA/PD7, 18 AVDD, 19 GND, 20 XTAL32K1/PF0, 21 XTAL32K2/PF1, 22 PF2, 23 PF3, 24 PF4, 25 PF5, 26 ~{{RESET}/PF6}, 27 UPDI, 28 VDD, 29 GND, 30 PA0, 31 PA1, 32 PA2, 33 GND

## AVR128DA48x-x6LX
designator *  value AVR128DA48x-x6LX  Reference: U
24MHz, 128kB Flash, 16kB SRAM, EEPROM with Touch Sensing, VQFN-48; ki_keywords: AVR 8bit Microcontroller AVR-DA; ki_fp_filters: QFN*1EP*6x6mm*P0.4mm*EP4.2x4.2mm*; Footprint: Package_DFN_QFN:QFN-48-1EP_6x6mm_P0.4mm_EP4.2x4.2mm; Datasheet: https://ww1.microchip.com/downloads/en/DeviceDoc/AVR128DA28-32-48-64-DataSheet-DS40002183B.pdf; Description_: 24MHz, 128kB Flash, 16kB SRAM, EEPROM with Touch Sensing, VQFN-48
pins: 1 PA5, 2 PA6, 3 PA7, 4 PB0, 5 PB1, 6 PB2, 7 PB3, 8 PB4, 9 PB5, 10 PC0, 11 PC1, 12 PC2, 13 PC3, 14 VDD, 15 GND, 16 PC4, 17 PC5, 18 PC6, 19 PC7, 20 PD0, 21 PD1, 22 PD2, 23 PD3, 24 PD4, 25 PD5, 26 PD6, 27 VREFA/PD7, 28 AVDD, 29 GND, 30 PE0, 31 PE1, 32 PE2, 33 PE3, 34 XTAL32K1/PF0, 35 XTAL32K2/PF1, 36 PF2, 37 PF3, 38 PF4, 39 PF5, 40 ~{{RESET}/PF6}, 41 UPDI, 42 VDD, 43 GND, 44 PA0, 45 PA1, 46 PA2, 47 PA3, 48 PA4, 49 GND

## AVR128DA48x-xPT
designator *  value AVR128DA48x-xPT  Reference: U
24MHz, 128kB Flash, 16kB SRAM, EEPROM with Touch Sensing, TQFP-48; ki_keywords: AVR 8bit Microcontroller AVR-DA; ki_fp_filters: TQFP*7x7mm*P0.5mm*; Footprint: Package_QFP:TQFP-48_7x7mm_P0.5mm; Datasheet: https://ww1.microchip.com/downloads/en/DeviceDoc/AVR128DA28-32-48-64-DataSheet-DS40002183B.pdf; Description_: 24MHz, 128kB Flash, 16kB SRAM, EEPROM with Touch Sensing, TQFP-48
pins: 1 PA5, 2 PA6, 3 PA7, 4 PB0, 5 PB1, 6 PB2, 7 PB3, 8 PB4, 9 PB5, 10 PC0, 11 PC1, 12 PC2, 13 PC3, 14 VDD, 15 GND, 16 PC4, 17 PC5, 18 PC6, 19 PC7, 20 PD0, 21 PD1, 22 PD2, 23 PD3, 24 PD4, 25 PD5, 26 PD6, 27 VREFA/PD7, 28 AVDD, 29 GND, 30 PE0, 31 PE1, 32 PE2, 33 PE3, 34 XTAL32K1/PF0, 35 XTAL32K2/PF1, 36 PF2, 37 PF3, 38 PF4, 39 PF5, 40 ~{{RESET}/PF6}, 41 UPDI, 42 VDD, 43 GND, 44 PA0, 45 PA1, 46 PA2, 47 PA3, 48 PA4

## AVR128DA64x-xMR
designator *  value AVR128DA64x-xMR  Reference: U
24MHz, 128kB Flash, 16kB SRAM, EEPROM with Touch Sensing, VQFN-64; ki_keywords: AVR 8bit Microcontroller AVR-DA; ki_fp_filters: VQFN*1EP*9x9mm*P0.5mm*EP7.15x7.15mm*; Footprint: Package_DFN_QFN:VQFN-64-1EP_9x9mm_P0.5mm_EP7.15x7.15mm; Datasheet: https://ww1.microchip.com/downloads/en/DeviceDoc/AVR128DA28-32-48-64-DataSheet-DS40002183B.pdf; Description_: 24MHz, 128kB Flash, 16kB SRAM, EEPROM with Touch Sensing, VQFN-64
pins: 1 PA3, 2 PA4, 3 PA5, 4 PA6, 5 PA7, 6 VDD, 7 GND, 8 PB0, 9 PB1, 10 PB2, 11 PB3, 12 PB4, 13 PB5, 14 PB6, 15 PB7, 16 PC0, 17 PC1, 18 PC2, 19 PC3, 20 VDD, 21 GND, 22 PC4, 23 PC5, 24 PC6, 25 PC7, 26 PD0, 27 PD1, 28 PD2, 29 PD3, 30 PD4, 31 PD5, 32 PD6, 33 VREFA/PD7, 34 AVDD, 35 GND, 36 PE0, 37 PE1, 38 PE2, 39 PE3, 40 PE4, 41 PE5, 42 PE6, 43 PE7, 44 XTAL32K1/PF0, 45 XTAL32K2/PF1, 46 PF2, 47 PF3, 48 PF4, 49 PF5, 50 ~{{RESET}/PF6_}, 51 UPDI, 52 PG0, 53 PG1, 54 PG2, 55 PG3, 56 VDD, 57 GND, 58 PG4, 59 PG5, 60 PG6, 61 PG7, 62 PA0, 63 PA1, 64 PA2, 65 GND

## AVR128DA64x-xPT
designator *  value AVR128DA64x-xPT  Reference: U
24MHz, 128kB Flash, 16kB SRAM, EEPROM with Touch Sensing, TQFP-64; ki_keywords: AVR 8bit Microcontroller AVR-DA; ki_fp_filters: TQFP*10x10mm*P0.5mm*; Footprint: Package_QFP:TQFP-64_10x10mm_P0.5mm; Datasheet: https://ww1.microchip.com/downloads/en/DeviceDoc/AVR128DA28-32-48-64-DataSheet-DS40002183B.pdf; Description_: 24MHz, 128kB Flash, 16kB SRAM, EEPROM with Touch Sensing, TQFP-64
pins: 1 PA3, 2 PA4, 3 PA5, 4 PA6, 5 PA7, 6 VDD, 7 GND, 8 PB0, 9 PB1, 10 PB2, 11 PB3, 12 PB4, 13 PB5, 14 PB6, 15 PB7, 16 PC0, 17 PC1, 18 PC2, 19 PC3, 20 VDD, 21 GND, 22 PC4, 23 PC5, 24 PC6, 25 PC7, 26 PD0, 27 PD1, 28 PD2, 29 PD3, 30 PD4, 31 PD5, 32 PD6, 33 VREFA/PD7, 34 AVDD, 35 GND, 36 PE0, 37 PE1, 38 PE2, 39 PE3, 40 PE4, 41 PE5, 42 PE6, 43 PE7, 44 XTAL32K1/PF0, 45 XTAL32K2/PF1, 46 PF2, 47 PF3, 48 PF4, 49 PF5, 50 ~{{RESET}/PF6_}, 51 UPDI, 52 PG0, 53 PG1, 54 PG2, 55 PG3, 56 VDD, 57 GND, 58 PG4, 59 PG5, 60 PG6, 61 PG7, 62 PA0, 63 PA1, 64 PA2

## AVR128DB28x-xSO
designator *  value AVR128DB28x-xSO  Reference: U
24MHz, 128kB Flash, 16kB SRAM, EEPROM with Op Amps and Multi-Voltage I/O, SOIC-28; ki_keywords: AVR 8bit Microcontroller AVR-DB; ki_fp_filters: SOIC*7.5x17.9mm*P1.27mm*; Footprint: Package_SO:SOIC-28W_7.5x17.9mm_P1.27mm; Datasheet: https://ww1.microchip.com/downloads/en/DeviceDoc/AVR128DB28-32-48-64-DataSheet-DS40002247A.pdf; Description_: 24MHz, 128kB Flash, 16kB SRAM, EEPROM with Op Amps and Multi-Voltage I/O, SOIC-28
pins: 1 PA7, 2 PC0, 3 PC1, 4 PC2, 5 PC3, 6 VDDIO2, 7 PD1, 8 PD2, 9 PD3, 10 PD4, 11 PD5, 12 PD6, 13 VREFA/PD7, 14 AVDD, 15 AGND, 16 XTAL32K1/PF0, 17 XTAL32K2/PF1, 18 ~{{RESET}/PF6}, 19 UPDI, 20 VDD, 21 GND, 22 XTALHF1/PA0, 23 XTALHF2/PA1, 24 PA2, 25 PA3, 26 PA4, 27 PA5, 28 PA6

## AVR128DB28x-xSP
designator *  value AVR128DB28x-xSP  Reference: U
24MHz, 128kB Flash, 16kB SRAM, EEPROM with Op Amps and Multi-Voltage I/O, SPDIP-28; ki_keywords: AVR 8bit Microcontroller AVR-DB; ki_fp_filters: DIP*W7.62mm*; Footprint: Package_DIP:DIP-28_W7.62mm; Datasheet: https://ww1.microchip.com/downloads/en/DeviceDoc/AVR128DB28-32-48-64-DataSheet-DS40002247A.pdf; Description_: 24MHz, 128kB Flash, 16kB SRAM, EEPROM with Op Amps and Multi-Voltage I/O, SPDIP-28
pins: 1 PA7, 2 PC0, 3 PC1, 4 PC2, 5 PC3, 6 VDDIO2, 7 PD1, 8 PD2, 9 PD3, 10 PD4, 11 PD5, 12 PD6, 13 VREFA/PD7, 14 AVDD, 15 AGND, 16 XTAL32K1/PF0, 17 XTAL32K2/PF1, 18 ~{{RESET}/PF6}, 19 UPDI, 20 VDD, 21 GND, 22 XTALHF1/PA0, 23 XTALHF2/PA1, 24 PA2, 25 PA3, 26 PA4, 27 PA5, 28 PA6

## AVR128DB28x-xSS
designator *  value AVR128DB28x-xSS  Reference: U
24MHz, 128kB Flash, 16kB SRAM, EEPROM with Op Amps and Multi-Voltage I/O, SSOP-28; ki_keywords: AVR 8bit Microcontroller AVR-DB; ki_fp_filters: SSOP*5.3x10.2mm*P0.65mm*; Footprint: Package_SO:SSOP-28_5.3x10.2mm_P0.65mm; Datasheet: https://ww1.microchip.com/downloads/en/DeviceDoc/AVR128DB28-32-48-64-DataSheet-DS40002247A.pdf; Description_: 24MHz, 128kB Flash, 16kB SRAM, EEPROM with Op Amps and Multi-Voltage I/O, SSOP-28
pins: 1 PA7, 2 PC0, 3 PC1, 4 PC2, 5 PC3, 6 VDDIO2, 7 PD1, 8 PD2, 9 PD3, 10 PD4, 11 PD5, 12 PD6, 13 VREFA/PD7, 14 AVDD, 15 AGND, 16 XTAL32K1/PF0, 17 XTAL32K2/PF1, 18 ~{{RESET}/PF6}, 19 UPDI, 20 VDD, 21 GND, 22 XTALHF1/PA0, 23 XTALHF2/PA1, 24 PA2, 25 PA3, 26 PA4, 27 PA5, 28 PA6

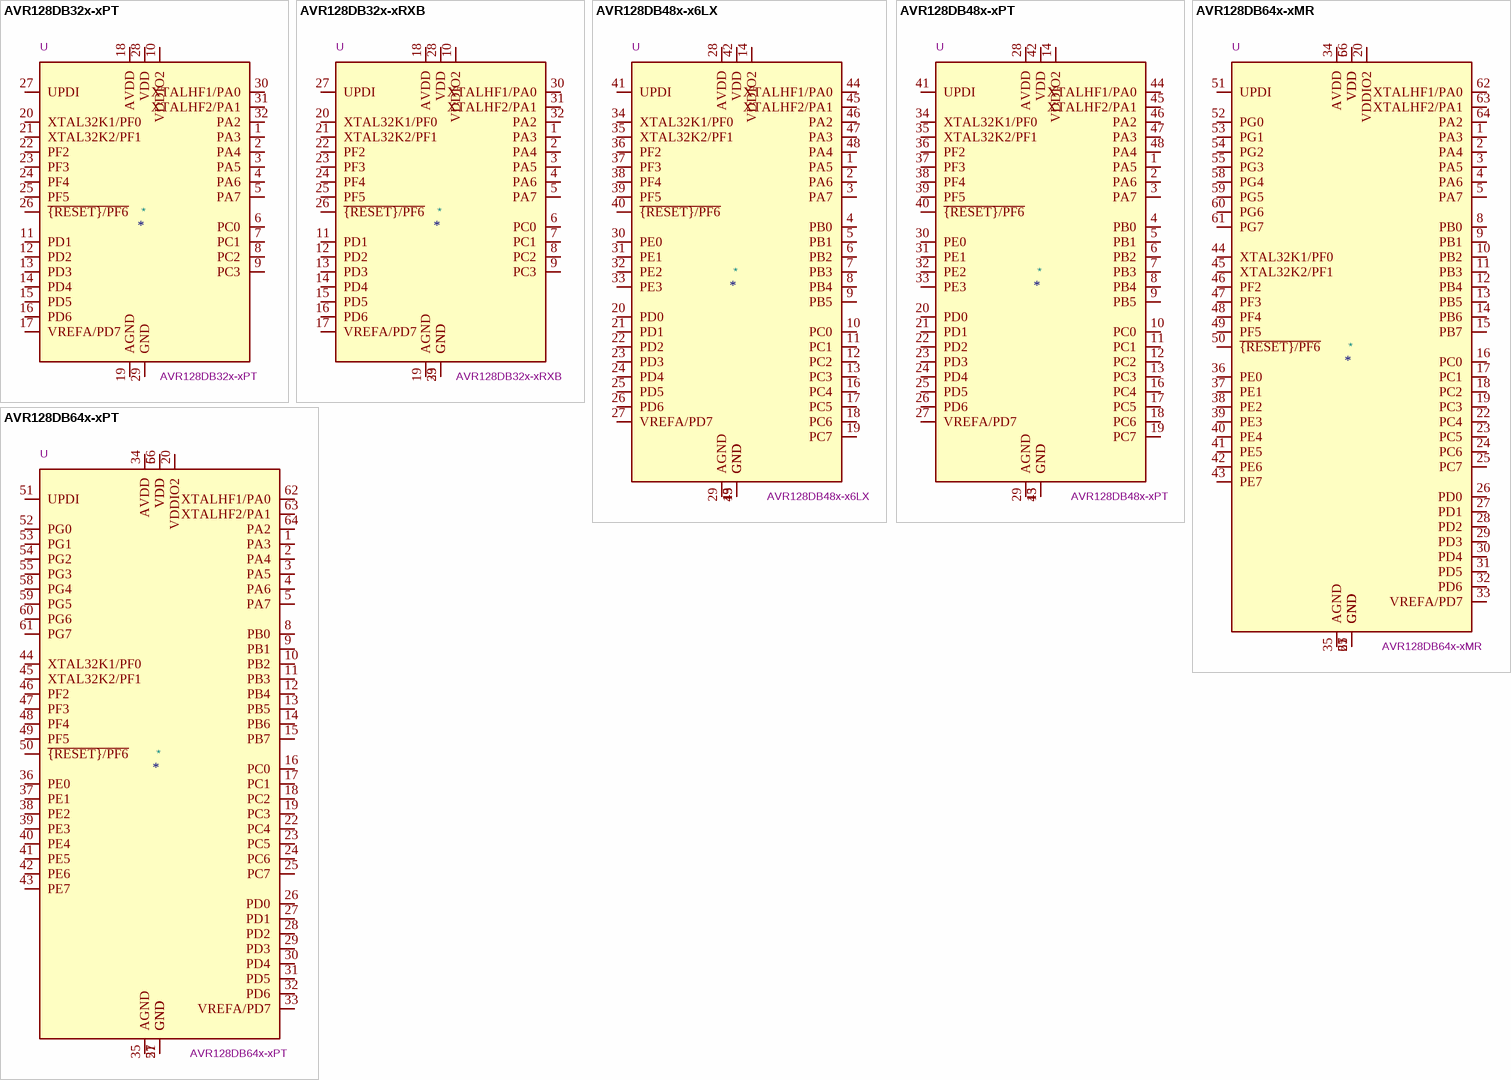
[diagram p3: symbols AVR128DB32x-xPT to AVR128DB64x-xPT]

## AVR128DB32x-xPT
designator *  value AVR128DB32x-xPT  Reference: U
24MHz, 128kB Flash, 16kB SRAM, EEPROM with Op Amps and Multi-Voltage I/O, TQFP-32; ki_keywords: AVR 8bit Microcontroller AVR-DB; ki_fp_filters: TQFP*7x7mm*P0.8mm*; Footprint: Package_QFP:TQFP-32_7x7mm_P0.8mm; Datasheet: https://ww1.microchip.com/downloads/en/DeviceDoc/AVR128DB28-32-48-64-DataSheet-DS40002247A.pdf; Description_: 24MHz, 128kB Flash, 16kB SRAM, EEPROM with Op Amps and Multi-Voltage I/O, TQFP-32
pins: 1 PA3, 2 PA4, 3 PA5, 4 PA6, 5 PA7, 6 PC0, 7 PC1, 8 PC2, 9 PC3, 10 VDDIO2, 11 PD1, 12 PD2, 13 PD3, 14 PD4, 15 PD5, 16 PD6, 17 VREFA/PD7, 18 AVDD, 19 AGND, 20 XTAL32K1/PF0, 21 XTAL32K2/PF1, 22 PF2, 23 PF3, 24 PF4, 25 PF5, 26 ~{{RESET}/PF6}, 27 UPDI, 28 VDD, 29 GND, 30 XTALHF1/PA0, 31 XTALHF2/PA1, 32 PA2

## AVR128DB32x-xRXB
designator *  value AVR128DB32x-xRXB  Reference: U
24MHz, 128kB Flash, 16kB SRAM, EEPROM with Op Amps and Multi-Voltage I/O, VQFN-32; ki_keywords: AVR 8bit Microcontroller AVR-DB; ki_fp_filters: QFN*1EP*5x5mm*P0.5mm*EP3.1x3.1mm*; Footprint: Package_DFN_QFN:QFN-32-1EP_5x5mm_P0.5mm_EP3.1x3.1mm; Datasheet: https://ww1.microchip.com/downloads/en/DeviceDoc/AVR128DB28-32-48-64-DataSheet-DS40002247A.pdf; Description_: 24MHz, 128kB Flash, 16kB SRAM, EEPROM with Op Amps and Multi-Voltage I/O, VQFN-32
pins: 1 PA3, 2 PA4, 3 PA5, 4 PA6, 5 PA7, 6 PC0, 7 PC1, 8 PC2, 9 PC3, 10 VDDIO2, 11 PD1, 12 PD2, 13 PD3, 14 PD4, 15 PD5, 16 PD6, 17 VREFA/PD7, 18 AVDD, 19 AGND, 20 XTAL32K1/PF0, 21 XTAL32K2/PF1, 22 PF2, 23 PF3, 24 PF4, 25 PF5, 26 ~{{RESET}/PF6}, 27 UPDI, 28 VDD, 29 GND, 30 XTALHF1/PA0, 31 XTALHF2/PA1, 32 PA2, 33 GND

## AVR128DB48x-x6LX
designator *  value AVR128DB48x-x6LX  Reference: U
24MHz, 128kB Flash, 16kB SRAM, EEPROM with Op Amps and Multi-Voltage I/O, VQFN-48; ki_keywords: AVR 8bit Microcontroller AVR-DB; ki_fp_filters: QFN*1EP*6x6mm*P0.4mm*EP4.2x4.2mm*; Footprint: Package_DFN_QFN:QFN-48-1EP_6x6mm_P0.4mm_EP4.2x4.2mm; Datasheet: https://ww1.microchip.com/downloads/en/DeviceDoc/AVR128DB28-32-48-64-DataSheet-DS40002247A.pdf; Description_: 24MHz, 128kB Flash, 16kB SRAM, EEPROM with Op Amps and Multi-Voltage I/O, VQFN-48
pins: 1 PA5, 2 PA6, 3 PA7, 4 PB0, 5 PB1, 6 PB2, 7 PB3, 8 PB4, 9 PB5, 10 PC0, 11 PC1, 12 PC2, 13 PC3, 14 VDDIO2, 15 GND, 16 PC4, 17 PC5, 18 PC6, 19 PC7, 20 PD0, 21 PD1, 22 PD2, 23 PD3, 24 PD4, 25 PD5, 26 PD6, 27 VREFA/PD7, 28 AVDD, 29 AGND, 30 PE0, 31 PE1, 32 PE2, 33 PE3, 34 XTAL32K1/PF0, 35 XTAL32K2/PF1, 36 PF2, 37 PF3, 38 PF4, 39 PF5, 40 ~{{RESET}/PF6}, 41 UPDI, 42 VDD, 43 GND, 44 XTALHF1/PA0, 45 XTALHF2/PA1, 46 PA2, 47 PA3, 48 PA4, 49 GND

## AVR128DB48x-xPT
designator *  value AVR128DB48x-xPT  Reference: U
24MHz, 128kB Flash, 16kB SRAM, EEPROM with Op Amps and Multi-Voltage I/O, TQFP-48; ki_keywords: AVR 8bit Microcontroller AVR-DB; ki_fp_filters: TQFP*7x7mm*P0.5mm*; Footprint: Package_QFP:TQFP-48_7x7mm_P0.5mm; Datasheet: https://ww1.microchip.com/downloads/en/DeviceDoc/AVR128DB28-32-48-64-DataSheet-DS40002247A.pdf; Description_: 24MHz, 128kB Flash, 16kB SRAM, EEPROM with Op Amps and Multi-Voltage I/O, TQFP-48
pins: 1 PA5, 2 PA6, 3 PA7, 4 PB0, 5 PB1, 6 PB2, 7 PB3, 8 PB4, 9 PB5, 10 PC0, 11 PC1, 12 PC2, 13 PC3, 14 VDDIO2, 15 GND, 16 PC4, 17 PC5, 18 PC6, 19 PC7, 20 PD0, 21 PD1, 22 PD2, 23 PD3, 24 PD4, 25 PD5, 26 PD6, 27 VREFA/PD7, 28 AVDD, 29 AGND, 30 PE0, 31 PE1, 32 PE2, 33 PE3, 34 XTAL32K1/PF0, 35 XTAL32K2/PF1, 36 PF2, 37 PF3, 38 PF4, 39 PF5, 40 ~{{RESET}/PF6}, 41 UPDI, 42 VDD, 43 GND, 44 XTALHF1/PA0, 45 XTALHF2/PA1, 46 PA2, 47 PA3, 48 PA4

## AVR128DB64x-xMR
designator *  value AVR128DB64x-xMR  Reference: U
24MHz, 128kB Flash, 16kB SRAM, EEPROM with Op Amps and Multi-Voltage I/O, VQFN-64; ki_keywords: AVR 8bit Microcontroller AVR-DB; ki_fp_filters: VQFN*1EP*9x9mm*P0.5mm*EP7.15x7.15mm*; Footprint: Package_DFN_QFN:VQFN-64-1EP_9x9mm_P0.5mm_EP7.15x7.15mm; Datasheet: https://ww1.microchip.com/downloads/en/DeviceDoc/AVR128DB28-32-48-64-DataSheet-DS40002247A.pdf; Description_: 24MHz, 128kB Flash, 16kB SRAM, EEPROM with Op Amps and Multi-Voltage I/O, VQFN-64
pins: 1 PA3, 2 PA4, 3 PA5, 4 PA6, 5 PA7, 6 VDD, 7 GND, 8 PB0, 9 PB1, 10 PB2, 11 PB3, 12 PB4, 13 PB5, 14 PB6, 15 PB7, 16 PC0, 17 PC1, 18 PC2, 19 PC3, 20 VDDIO2, 21 GND, 22 PC4, 23 PC5, 24 PC6, 25 PC7, 26 PD0, 27 PD1, 28 PD2, 29 PD3, 30 PD4, 31 PD5, 32 PD6, 33 VREFA/PD7, 34 AVDD, 35 AGND, 36 PE0, 37 PE1, 38 PE2, 39 PE3, 40 PE4, 41 PE5, 42 PE6, 43 PE7, 44 XTAL32K1/PF0, 45 XTAL32K2/PF1, 46 PF2, 47 PF3, 48 PF4, 49 PF5, 50 ~{{RESET}/PF6}, 51 UPDI, 52 PG0, 53 PG1, 54 PG2, 55 PG3, 56 VDD, 57 GND, 58 PG4, 59 PG5, 60 PG6, 61 PG7, 62 XTALHF1/PA0, 63 XTALHF2/PA1, 64 PA2, 65 GND

## AVR128DB64x-xPT
designator *  value AVR128DB64x-xPT  Reference: U
24MHz, 128kB Flash, 16kB SRAM, EEPROM with Op Amps and Multi-Voltage I/O, TQFP-64; ki_keywords: AVR 8bit Microcontroller AVR-DB; ki_fp_filters: TQFP*10x10mm*P0.5mm*; Footprint: Package_QFP:TQFP-64_10x10mm_P0.5mm; Datasheet: https://ww1.microchip.com/downloads/en/DeviceDoc/AVR128DB28-32-48-64-DataSheet-DS40002247A.pdf; Description_: 24MHz, 128kB Flash, 16kB SRAM, EEPROM with Op Amps and Multi-Voltage I/O, TQFP-64
pins: 1 PA3, 2 PA4, 3 PA5, 4 PA6, 5 PA7, 6 VDD, 7 GND, 8 PB0, 9 PB1, 10 PB2, 11 PB3, 12 PB4, 13 PB5, 14 PB6, 15 PB7, 16 PC0, 17 PC1, 18 PC2, 19 PC3, 20 VDDIO2, 21 GND, 22 PC4, 23 PC5, 24 PC6, 25 PC7, 26 PD0, 27 PD1, 28 PD2, 29 PD3, 30 PD4, 31 PD5, 32 PD6, 33 VREFA/PD7, 34 AVDD, 35 AGND, 36 PE0, 37 PE1, 38 PE2, 39 PE3, 40 PE4, 41 PE5, 42 PE6, 43 PE7, 44 XTAL32K1/PF0, 45 XTAL32K2/PF1, 46 PF2, 47 PF3, 48 PF4, 49 PF5, 50 ~{{RESET}/PF6}, 51 UPDI, 52 PG0, 53 PG1, 54 PG2, 55 PG3, 56 VDD, 57 GND, 58 PG4, 59 PG5, 60 PG6, 61 PG7, 62 XTALHF1/PA0, 63 XTALHF2/PA1, 64 PA2